# Altium schematic symbol library Drivers.SchLib: 8 symbols
Pins are listed as number, name and electrical type; pins without a type are passive.

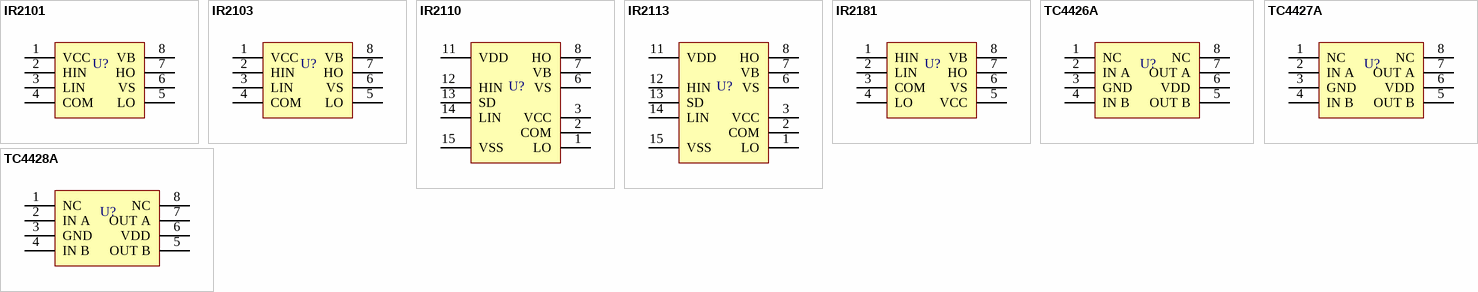
[diagram p0: symbols IR2101 to TC4428A]

## IR2101
designator U?  (value not drawn)
The IR2101(S) are high voltage, high speed power MOSFET and IGBT drivers
footprint SOP-8
pins: 1 VCC, 2 HIN, 3 LIN, 4 COM, 5 LO, 6 VS, 7 HO, 8 VB

## IR2103
designator U?  (value not drawn)
The IR2103(S) are high voltage, high speed power MOSFET and IGBT drivers
footprint SOP-8
pins: 1 VCC, 2 HIN, 3 LIN, 4 COM, 5 LO, 6 VS, 7 HO, 8 VB

## IR2110
designator U?  (value not drawn)
The IR2110(S) are high voltage, high speed power MOSFET and IGBT drivers
footprint SOIC-16-W
pins: 1 LO, 2 COM, 3 VCC, 6 VS, 7 VB, 8 HO, 11 VDD, 12 HIN, 13 SD, 14 LIN, 15 VSS

## IR2113
designator U?  (value not drawn)
The IR2113(S) are high voltage, high speed power MOSFET and IGBT drivers
footprint SOIC-16-W
pins: 1 LO, 2 COM, 3 VCC, 6 VS, 7 VB, 8 HO, 11 VDD, 12 HIN, 13 SD, 14 LIN, 15 VSS

## IR2181
designator U?, comment IR2101  (value not drawn)
The IR2181(S) are high voltage, high speed power MOSFET and IGBT drivers
footprint SOP-8
pins: 1 HIN, 2 LIN, 3 COM, 4 LO, 5 VCC, 6 VS, 7 HO, 8 VB

## TC4426A
designator U?  (value not drawn)
Dual High-Speed Power MOSFET Drivers 1.5A
footprint SOP-8
pins: 1 NC, 2 IN A, 3 GND, 4 IN B, 5 OUT B, 6 VDD, 7 OUT A, 8 NC

## TC4427A
designator U?  (value not drawn)
Dual High-Speed Power MOSFET Drivers 1.5A
footprint SOP-8
pins: 1 NC, 2 IN A, 3 GND, 4 IN B, 5 OUT B, 6 VDD, 7 OUT A, 8 NC

## TC4428A
designator U?  (value not drawn)
Dual High-Speed Power MOSFET Drivers 1.5A
footprint SOP-8
pins: 1 NC, 2 IN A, 3 GND, 4 IN B, 5 OUT B, 6 VDD, 7 OUT A, 8 NC